# Altium footprint library FCI_10029449.PcbLib: 1 footprints
Each footprint in its own frame and in the unit in brackets; x right, y up, seen from the top. Pads: shape width x height; smd on the part's side, far side on the other; paste and mask are expansions set on the pad; w line width, h text height; cw(c..) or ccw(c..) is an arc to the next point about the centre after c.
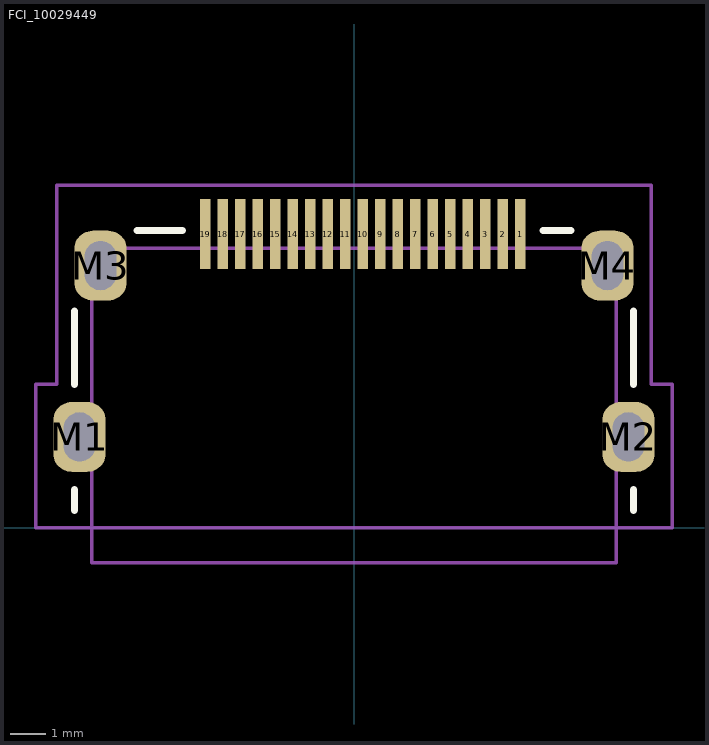
[diagram p0: the footprint, top view; thin cyan lines are the x and y axes]

## FCI_10029449 [mm]
pads (23):
  rect 0.3x2 smd mask+0.08: 1(4.75,8.4) 2(4.25,8.4) 3(3.75,8.4) 4(3.25,8.4) 5(2.75,8.4) 6(2.25,8.4) 7(1.75,8.4) 8(1.25,8.4) 9(0.75,8.4) 10(0.25,8.4) 11(-0.25,8.4) 12(-0.75,8.4) 13(-1.25,8.4) 14(-1.75,8.4) 15(-2.25,8.4) 16(-2.75,8.4) 17(-3.25,8.4) 18(-3.75,8.4) 19(-4.25,8.4)
  rrect70% 1.5x2 hole 0.9 slot 1.4 at 90 deg: M1(-7.85,2.6) M2(7.85,2.6) M3(-7.25,7.5) M4(7.25,7.5)
Top Overlay:
  lines w0.2: -8,0.5 -8,1.1 ; -8,4.1 -8,6.2 ; -6.2,8.5 -4.9,8.5 ; 5.4,8.5 6.2,8.5 ; 8,0.5 8,1.1 ; 8,4.1 8,6.2
Mechanical 13:
  lines w0.1: -7.5,-1 -7.5,8 7.5,8 7.5,-1 -7.5,-1
Mechanical 15:
  lines w0.1: -9.1,0 -9.1,4.1 -8.5,4.1 -8.5,9.8 8.5,9.8 8.5,4.1 9.1,4.1 9.1,0 -9.1,0
3D body: height 6.09, standoff -1.9, extent -8.1,-1 8.1,8.9